# EAGLE library part MOLEX-78171-5007 (library gwu_mpnl_ucat_v10)
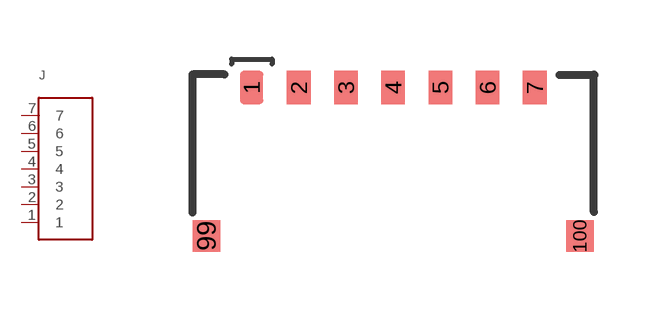
[diagram p25: symbol with the pads of MOLEX-78171-5007; footprint MOLEX-78171-5007]

Designator prefix J

## MOLEX-78171-5007 (MF: MOLEX; MPN: 78171-5007)  [MOLEX-78171-5007]
1  1
2  2
3  3
4  4
5  5
6  6
7  7

## Footprint MOLEX-78171-5007 (pad centres in mm)
smd 0.6 x 0.85: 1 -3.6,0; 2 -2.4,0; 3 -1.2,0; 4 0,0; 5 1.2,0; 6 2.4,0; 7 3.6,0
smd 0.7 x 0.8: 99 -4.75,-3.775; 100 4.75,-3.775